# Altium schematic symbol library lib_cui.SchLib: 4 symbols
Pins are listed as number, name and electrical type; pins without a type are passive.

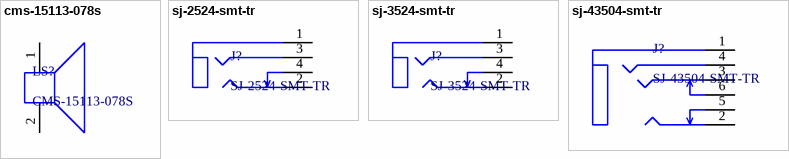
[diagram p0: symbols cms-15113-078s to sj-43504-smt-tr]

## cms-15113-078s
designator LS?, comment CMS-15113-078S
Speakers & Transducers 0.7W 8ohm 700Hz 15x11mm SpringContct; ComponentLink1Description: datasheet; ComponentLink1URL: https://www.mouser.se/datasheet/2/670/cms-15113-078x-1315382.pdf
footprint cms-15113-078s
pins: 1, 2

## sj-2524-smt-tr
designator J?, comment SJ-2524-SMT-TR
2.5 MM AUDIO JACKS; ComponentLink1Description: datasheet; ComponentLink1URL: https://www.mouser.se/datasheet/2/670/sj-252x-smt_series-1313245.pdf
footprint sj-2524-smt-tr
pins: 1, 2, 3, 4

## sj-3524-smt-tr
designator J?, comment SJ-3524-SMT-TR
3.5 MM AUDIO JACKS; ComponentLink1Description: datasheet; ComponentLink1URL: https://www.mouser.se/datasheet/2/670/sj-252x-smt_series-1313245.pdf
footprint sj-3524-smt-tr
pins: 1, 2, 3, 4

## sj-43504-smt-tr
designator J?, comment SJ-43504-SMT-TR
MID MOUNT AUDIO JACK; ComponentLink1Description: datasheet; ComponentLink1URL: https://www.mouser.se/datasheet/2/670/sj-43504-smt-1391171.pdf
footprint SJ-43504-SMT-TR
pins: 1, 2, 3, 4, 5 4, 6 4